# EAGLE library part VIPER50 (library st-microelectronics)
SMPS PRIMARY IC PowerSO-10 Package
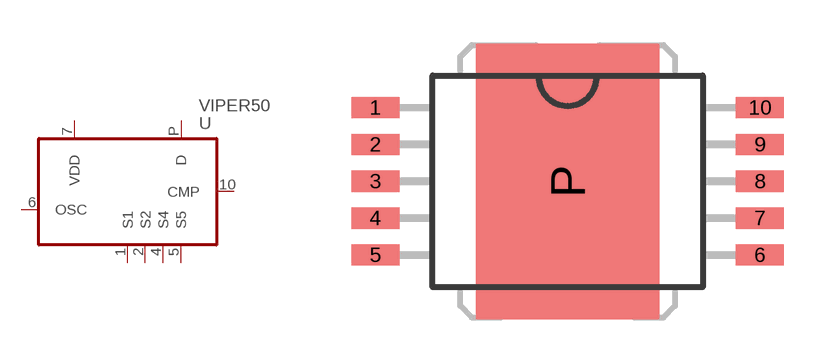
[diagram p30: symbol with the pads of POWER-SO10; footprint POWER-SO10]

Designator prefix U

## VIPER50  [POWER-SO10]
1  S1  pas
2  S2  pas
4  S4  pas
5  S5  pas
6  OSC  pas
7  VDD  pas
10  CMP  pas
P  D  pas

## Footprint POWER-SO10 (pad centres in mm)
Power SO-10 http://eu.st.com/stonline/ 3732.pdf and 5691.pdf
smd 1.65 x 0.73: 1 -6.625,2.54; 2 -6.625,1.27; 3 -6.625,0; 4 -6.625,-1.27; 5 -6.625,-2.54; 6 6.625,-2.54; 7 6.625,-1.27; 8 6.625,0; 9 6.625,1.27; 10 6.625,2.54
smd 6.3 x 9.5: P 0,0